# Altium footprint library Footprint-Lib-ABahlmann-SMD.PcbLib: 105 footprints (part 2 of 7)
Each footprint in its own frame and in the unit in brackets; x right, y up, seen from the top. Pads: shape width x height; smd on the part's side, far side on the other; paste and mask are expansions set on the pad; w line width, h text height; cw(c..) or ccw(c..) is an arc to the next point about the centre after c.
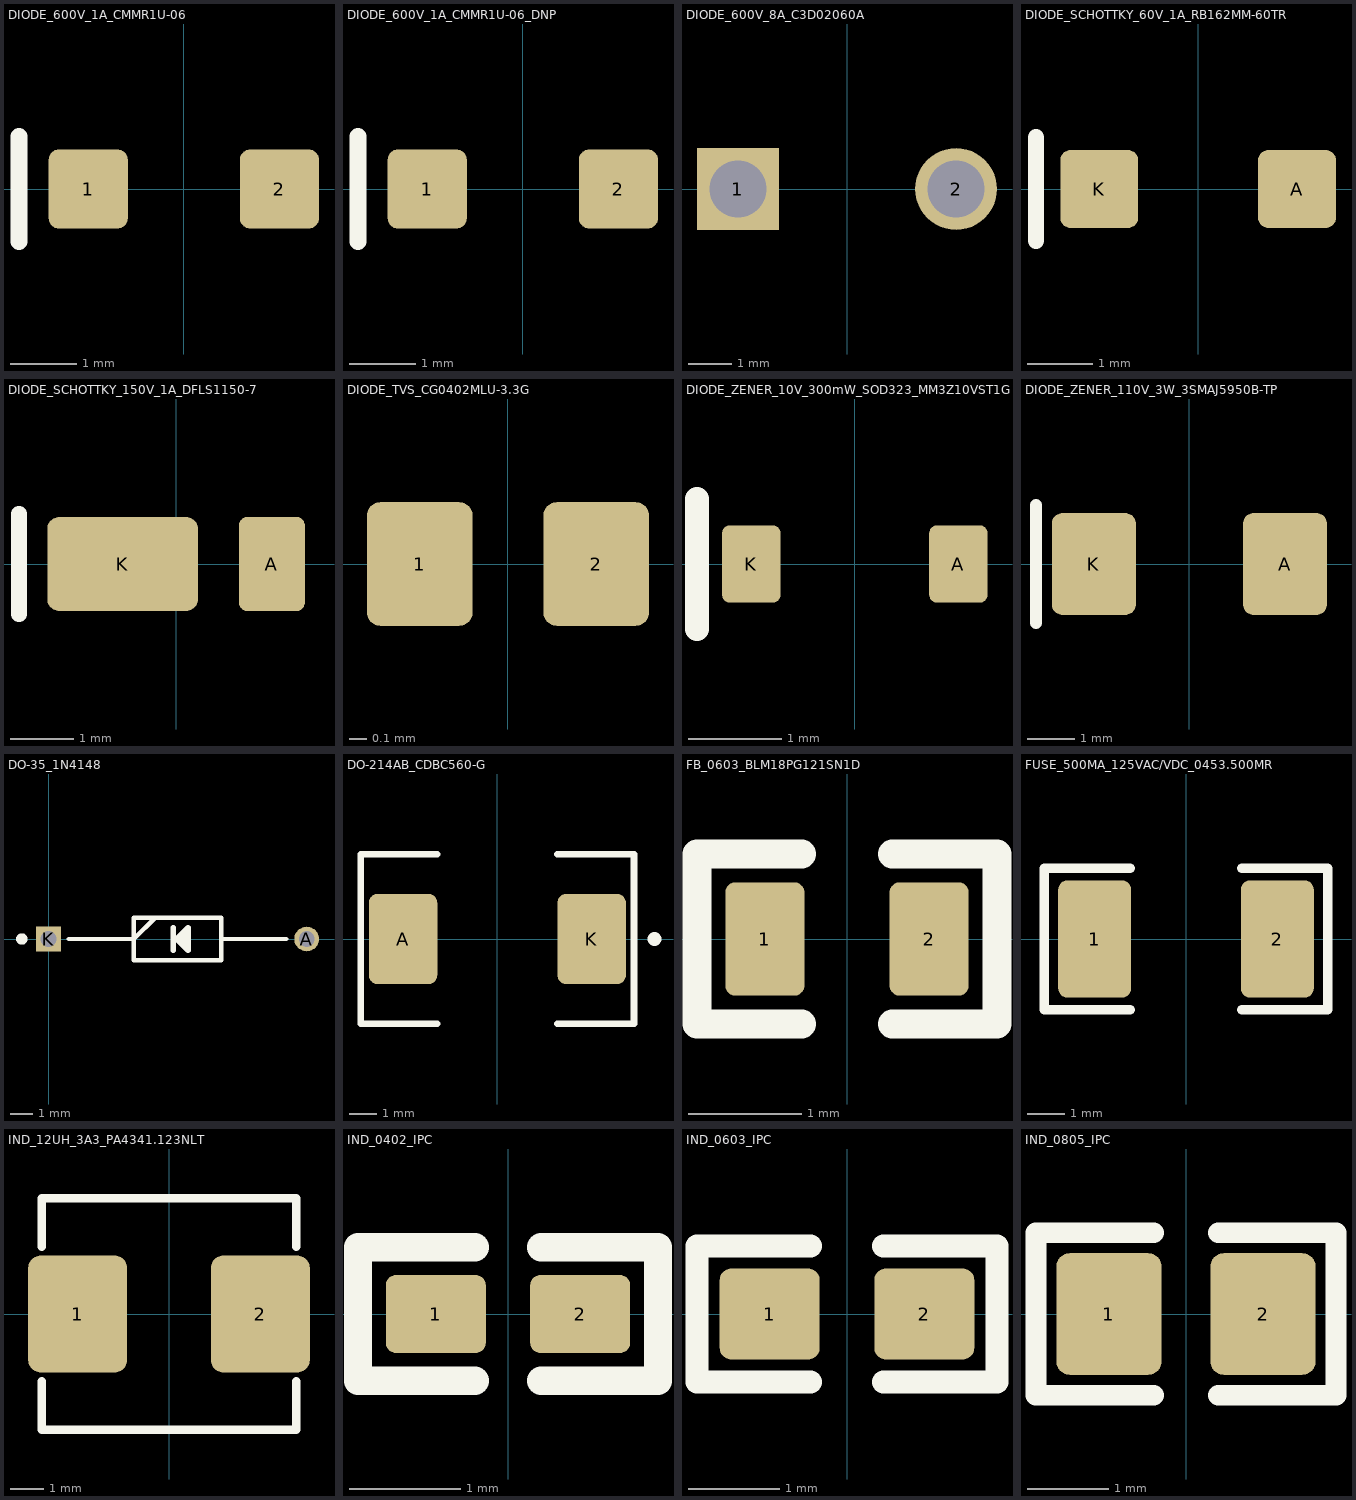
[diagram p1: the footprints below, top view; thin cyan lines are the x and y axes]

## DIODE_600V_1A_CMMR1U-06 [mm] "Diode 600 V 1A Surface Mount SOD-123F"
pads (2):
  rrect25% 1.2x1.2 smd: 1(-1.45,0) 2(1.45,0)
Top Overlay:
  lines w0.254: -2.5,-0.8 -2.5,0.8
3D body "SMF14A.step": height 1.11, standoff 0.01, extent -1.825,-0.875 1.825,0.875

## DIODE_600V_1A_CMMR1U-06_DNP [mm] "Diode 600 V 1A Surface Mount SOD-123F"
pads (2):
  rrect25% 1.2x1.2 smd: 1(-1.45,0) 2(1.45,0)
Top Overlay:
  lines w0.254: -2.5,-0.8 -2.5,0.8

## DIODE_600V_8A_C3D02060A [mil] "Diode 600 V 8A Through Hole TO-220-2"
pads (2):
  rect 75x75 hole 52: 1(-100,0)
  round 75 hole 52: 2(100,0)
3D body "C3D02060A.step": height 765.5, standoff -156.98, extent -197.75,-62.62 197.75,112.5

## DIODE_SCHOTTKY_60V_1A_RB162MM-60TR [mm] "Diode 60 V 1A Surface Mount PMDU"
pads (2):
  rrect25% 1.2x1.2 smd: A(1.525,0) K(-1.525,0)
Top Overlay:
  lines w0.254: -2.5,-0.8 -2.5,0.8
3D body "RB162MM-60TR.stp": height 0.81, standoff 0.01, extent -1.75,-0.8 1.75,0.8

## DIODE_SCHOTTKY_150V_1A_DFLS1150-7 [mm] "Diode 150 V 1A Surface Mount PowerDI™ 123"
pads (2):
  rrect25% 1.05x1.5 smd: A(1.525,0)
  rrect25% 2.4x1.5 smd: K(-0.85,0)
Top Overlay:
  lines w0.254: -2.5,-0.8 -2.5,0.8
3D body "DFLS1150-7.stp": height 1.01, standoff 0.01, extent -1.85,-0.89 1.85,0.89

## DIODE_TVS_CG0402MLU-3.3G [mm] "Varistor 1 Circuit Surface Mount, MLCV 0402 (1005 Metric)"
pads (2):
  rrect25% 0.6x0.7 smd: 1(-0.5,0) 2(0.5,0)
3D body "CG0402MLU-3.3G.stp": height 0.42, standoff 0.01, extent -0.5,-0.25 0.5,0.25

## DIODE_ZENER_10V_300mW_SOD323_MM3Z10VST1G - duplicate [mm] "Zener Diode 10 V 300 mW ±2% Surface Mount SOD-323"
pads (2):
  rrect25% 0.63x0.83 smd: A(1.115,0) K(-1.115,0)
Top Overlay:
  lines w0.254: -1.7,-0.7 -1.7,0.7
3D body "MM3Z10VST1G.step": height 1.01, standoff 0.01, extent -1.25,-0.619 1.25,0.619

## DIODE_ZENER_110V_3W_3SMAJ5950B-TP [mm] "Zener Diode 110 V 3 W ±5% Surface Mount DO-214AC (SMA)"
pads (2):
  rrect25% 1.78x2.16 smd: A(2.025,0) K(-2.025,0)
Top Overlay:
  lines w0.254: -3.25,-1.25 -3.25,1.25
3D body "3SMAJ5950B-TP.step": height 2.45, standoff 0.01, extent -2.598,-1.292 2.598,1.292

## DO-35_1N4148 [mm] "Diode 100 V 200mA Through Hole DO-35"
pads (2):
  round 1.1 hole 0.7: A(11.5,0)
  rect 1.1x1.1 hole 0.7: K(0,0)
Top Overlay:
  circle w0.254: c-1.19,0 r0.127
  region: 6.21,-0.5 5.71,0 6.21,0.5
  lines w0.2: 0.9,0 3.8,0 4.75,0.95 ; 7.7,0 10.6,0 ; 3.8,-0.95 7.7,-0.95 7.7,0.95 3.8,0.95 3.8,-0.95
  lines w0.254: 5.56,-0.5 5.56,0.5 ; 5.71,0 6.21,-0.5 6.21,0.5 5.71,0
3D body "1N4148.stp": height 2, standoff -2, extent -0.25,-0.993 11.75,0.993

## DO-214AB_CDBC560-G [mm] "Diode 60 V 5A Surface Mount DO-214AB (SMC)"
pads (2):
  rrect25% 2.5x3.3 smd: A(-3.45,0) K(3.45,0)
Top Overlay:
  circle w0.254: c5.75,0 r0.127
  lines w0.254: -2.2,-3.1 -5,-3.1 -5,3.1 -2.2,3.1 ; 2.2,-3.1 5,-3.1 5,3.1 2.2,3.1
3D body "CDBC560-G.stp": height 2.62, standoff 0, extent -3.97,-2.953 3.97,2.953

## FB_0603_BLM18PG121SN1D [mm] "120 Ohms @ 100 MHz 1 Power Line Ferrite Bead 0603 (1608 Metric) 2A 50mOhm"
pads (2):
  rrect25% 0.7x1 smd: 1(-0.725,0) 2(0.725,0)
Top Overlay:
  lines w0.254: -0.4,-0.75 -1.325,-0.75 -1.325,0.75 -0.4,0.75 ; 0.4,-0.75 1.325,-0.75 1.325,0.75 0.4,0.75
3D body "BLM18PG121SN1D.STEP": height 0.96, standoff 0.01, extent -0.8,-0.4 0.8,0.4

## FUSE_500MA_125VAC/VDC_0453.500MR [mm] "500 mA 125 V 125 V Fuse Board Mount (Cartridge Style Excluded) Surface Mount 2-SMD, Square End Block"
pads (2):
  rrect25% 1.96x3.15 smd: 1(-2.45,0) 2(2.45,0)
Top Overlay:
  lines w0.254: -1.5,-1.9 -3.8,-1.9 -3.8,1.9 -1.5,1.9 ; 1.5,-1.9 3.8,-1.9 3.8,1.9 1.5,1.9
3D body "0453.500MR.STEP": height 2.95, standoff 0.01, extent -3.05,-1.345 3.05,1.345

## IND_12UH_3A3_PA4341.123NLT [mm] "12 µH Shielded Molded Inductor 3.3 A 93mOhm Max Nonstandard"
pads (2):
  rrect25% 2.95x3.5 smd: 1(-2.725,0) 2(2.725,0)
Top Overlay:
  lines w0.254: -3.8,-2 -3.8,-3.45 3.8,-3.45 3.8,-2 ; -3.8,2 -3.8,3.45 3.8,3.45 3.8,2
3D body "PA4341.123NLT.stp": height 3.01, standoff 0.01, extent -3.8,-3.45 3.8,3.45

## IND_0402_IPC [mm]
pads (2):
  rrect25% 0.9x0.7 smd: 1(-0.65,0) 2(0.65,0)
Top Overlay:
  lines w0.254: -0.3,-0.6 -1.35,-0.6 -1.35,0.6 -0.3,0.6 ; 0.3,-0.6 1.35,-0.6 1.35,0.6 0.3,0.6
3D body "IND_0402.stp": height 0.52, standoff 0.01, extent -0.508,-0.254 0.508,0.254

## IND_0603_IPC [mm]
pads (2):
  rrect25% 1.1x1 smd: 1(-0.85,0) 2(0.85,0)
Top Overlay:
  lines w0.254: -0.4,-0.75 -1.65,-0.75 -1.65,0.75 -0.4,0.75 ; 0.4,-0.75 1.65,-0.75 1.65,0.75 0.4,0.75
3D body "IND_0603.stp": height 0.81, standoff 0.01, extent -0.8,-0.4 0.8,0.4

## IND_0805_IPC [mm]
pads (2):
  rrect25% 1.3x1.5 smd: 1(-0.95,0) 2(0.95,0)
Top Overlay:
  lines w0.254: -0.4,-1 -1.85,-1 -1.85,1 -0.4,1 ; 0.4,-1 1.85,-1 1.85,1 0.4,1
3D body "IND_0805.stp": height 0.61, standoff 0.01, extent -1,-0.625 1,0.625